# Altium footprint library Pushbutton.PcbLib: 1 footprints
Each footprint in its own frame and in the unit in brackets; x right, y up, seen from the top. Pads: shape width x height; smd on the part's side, far side on the other; paste and mask are expansions set on the pad; w line width, h text height; cw(c..) or ccw(c..) is an arc to the next point about the centre after c.
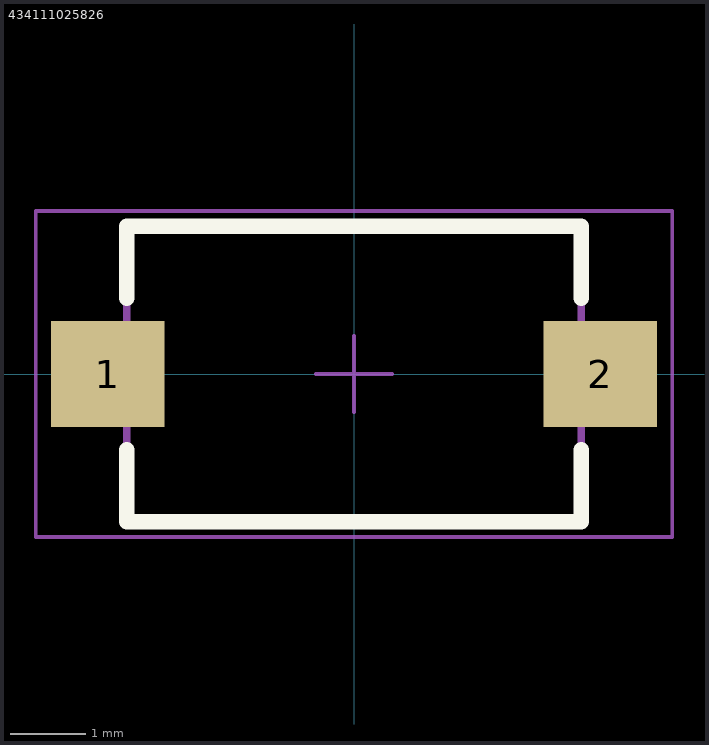
[diagram p0: the footprint, top view; thin cyan lines are the x and y axes]

## 434111025826 [mm] "SMD Tact Switch, body 6x3.8mm"
height 2.5
pads (2):
  rect 1.5x1.4 smd: 1(-3.25,0) 2(3.25,0)
Top Overlay:
  lines w0.2: -3,-1 -3,-1.95 3,-1.95 3,-1 ; -3,1 -3,1.95 3,1.95 3,1
Top Component Outline:
  lines w0.1: -3,-0.5 -3.65,-0.5 -3.65,0.5 -3,0.5 ; 3,-0.5 3.65,-0.5 3.65,0.5 3,0.5 ; -3,-1.95 -3,1.95 3,1.95 3,-1.95 -3,-1.95
Top Courtyard:
  lines w0.05: -4.2,-2.15 4.2,-2.15 4.2,2.15 -4.2,2.15 -4.2,-2.15
Top Component Center:
  lines w0.05: -0.5,0 0.5,0 ; 0,-0.5 0,0.5
Top Designator (Mech19):
  text ".Designator" at -4.998,-0.333 h1
3D body "4341x10258xx.stp": height 2.5, standoff 0, extent -3.65,-1.95 3.65,1.95